# Altium schematic symbol library BRT_Components.SchLib: 323 symbols (part 3 of 4)
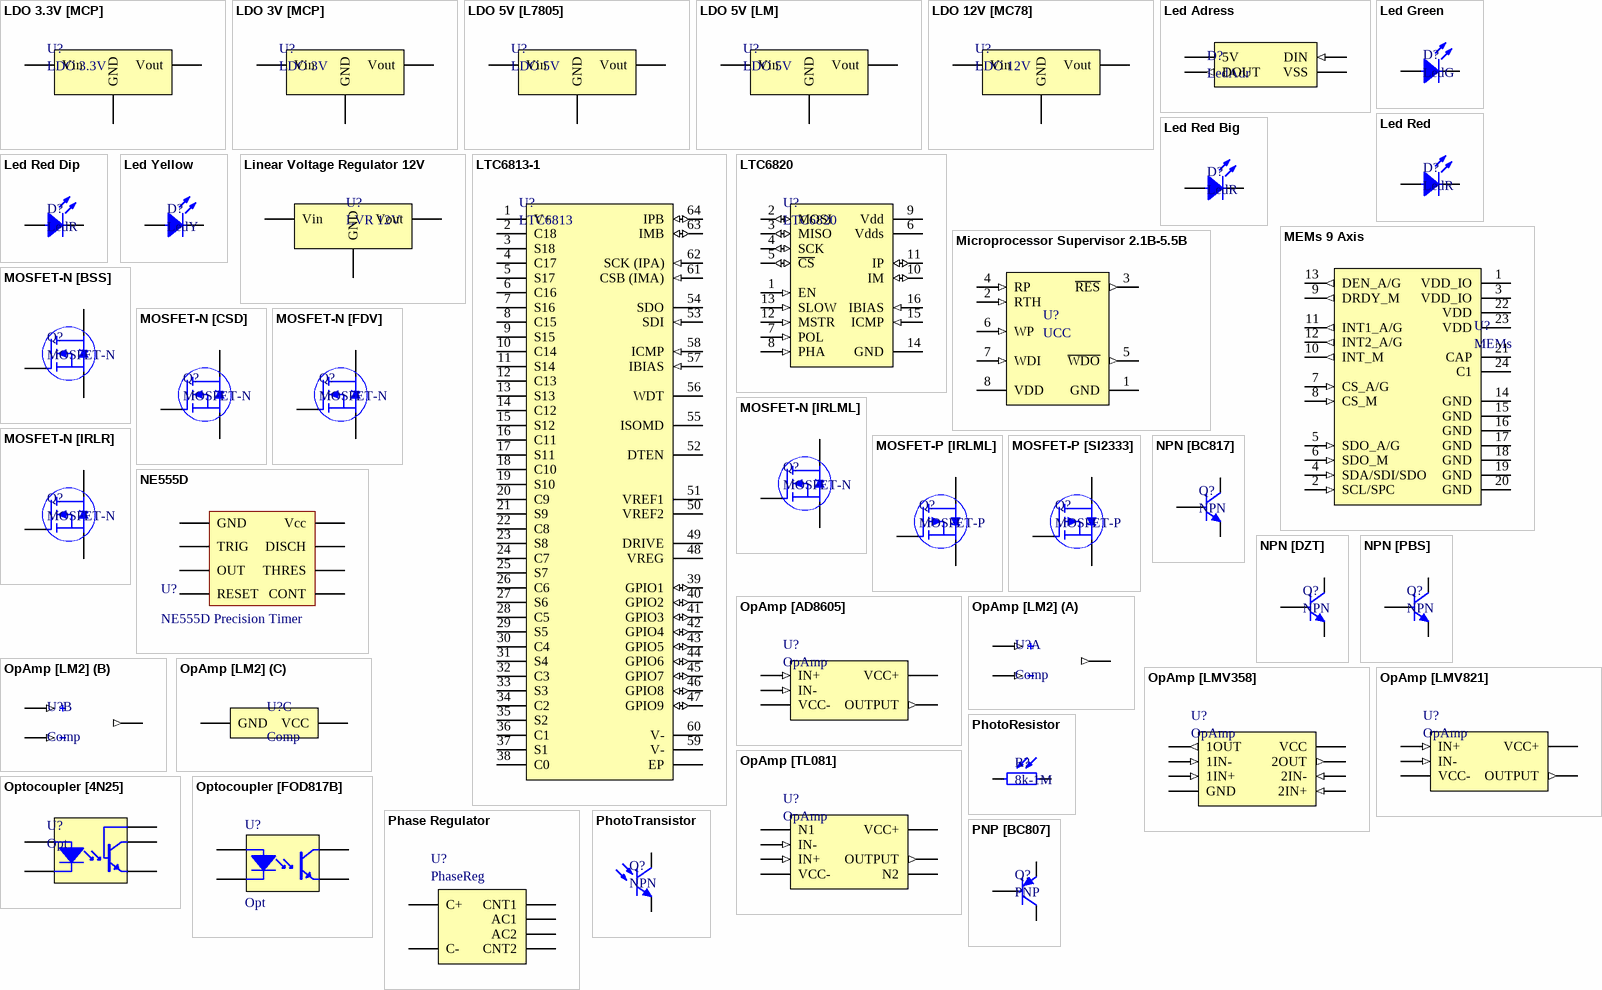
[diagram p10: symbols LDO 3.3V [MCP] to PNP [BC807]]

## Optocoupler [FOD817B]
designator U?, comment Opt
Phototransistor Optocoupler, 4 us Rise, 3 us Fall, 5000 Vrms, -55 to 110 degC, 4-Pin MDIP, RoHS, Tape and Reel; Manufacturer: ON Semiconductor; Part Nomber: FOD817B; ComponentLink1Description: Chip&Dip; ComponentLink1URL: https://www.chipdip.ru/product/fod817b; ComponentLink2Description: DataSheet; ComponentLink2URL: https://static.chipdip.ru/lib/297/DOC000297284.pdf
footprint FAIR-MDIP-4_V (SMD, 4-Leads, Body 6.5x4.6mm, Pitch 2.54mm)
pins: 1 ANODE, 2 CATHODE, 3 EMITTER, 4 COLLECTOR

## Phase Regulator
designator U?, comment PhaseReg
They are a mains voltage controller (phase controller circuit) and are designed for smooth switching on and off of electric incandescent lamps or adjusting their brightness, as well as for regulating the rotation speed of electric motors up to 150 W and for controlling power devices (thyristors, triacs). The implementation of the smooth on-off function will increase the life of the lamp by at least an order of magnitude. IC consists of two high-voltage thyristors switched in parallel and controlled by control unit through two isolating diodes. It has two power leads to be connected in series with the load, two auxiliary leads and two control inputs to connect a control resistor, capacitor or other control elements. The KR1182PM1 can be put in lamps, wall sockets and switches and used to control electric heaters. It is connected in series with the load. / Power DIP-(12 4) type enclosure.; Manufacturer: Russia; ComponentLink1Description: Chip&Dip; ComponentLink1URL: https://www.chipdip.ru/product/k1182pm1r; ComponentLink2Description: DataSheet; ComponentLink2URL: https://static.chipdip.ru/lib/143/DOC000143428.pdf; Part Number: KR1182PM1; Type: IC
footprint DIP16
pins: 3 C+ "Input Supply Voltage", 6 C-, 9 CNT2, 10, 11 AC2 (power), 14, 15 AC1 (power), 16 CNT1

## PhotoResistor
designator R?, comment 8k-1M
[GL5528]; Part Number: GL5528; Manufacturer: China; Type: Resistor; ComponentLink1Description: DataSheet; ComponentLink1URL: https://pi.gate.ac.uk/pages/airpi-files/PD0001.pdf
footprint PhotoResistor
pins: 1, 2

## PhotoTransistor
designator Q?, comment NPN
[L-7113P3C]; Manufacturer: Kingbright; Type: Transistor; Part Number: L-7113P3C; ComponentLink1Description: DataSheet; ComponentLink1URL: https://static.chipdip.ru/lib/195/DOC000195179.pdf; ComponentLink2Description: Chip&Dip; ComponentLink2URL: https://www.chipdip.ru/product/l-53p3c
footprint PhotoTransistor
pins: 1, 2

## PNP [BC807]
designator Q?, comment PNP
PNP general-purpose transistors; Part Number: BC807,215; Manufacturer: Nexperia; Type: Transistor; ComponentLink1Description: DataSheet; ComponentLink1URL: https://static.chipdip.ru/lib/078/DOC001078227.pdf; ComponentLink2Description: Chip&Dip; ComponentLink2URL: https://www.chipdip.ru/product/bc807.215
footprint SOT-23
pins: 1, 2, 3

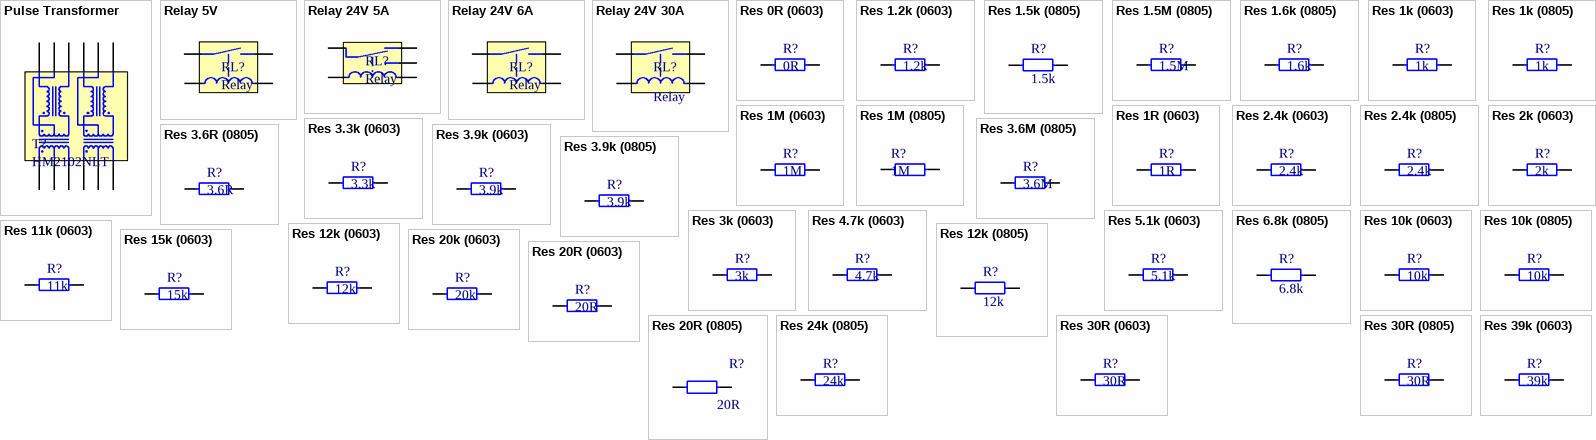
[diagram p6: symbols Pulse Transformer to Res 39k (0603)]

## Pulse Transformer
designator T?, comment HM2102NLT
150µH - Pulse Transformer 1:1 Surface Mount; Manufacturer: Pulse Electronics Network; Type: Inductor; Part Number: HM2102NLT; ComponentLink2Description: DigiKey; ComponentLink2URL: https://www.digikey.com/en/products/detail/pulse-electronics-network/HM2102NLT/8021473
footprint HM2102NLT
pins: 1, 2, 3, 4, 5, 6, 7, 8, 9, 10, 11, 12

## Relay 5V
designator RL?, comment Relay
High ratings: 12A 125VAC, 10A 277VAC/30VDC, TV-5, 1/4HP 125/250VAC; Manufacturer: Song Chuan Precision; Part Number: 834-1A-B-C 05VDC; ComponentLink1Description: Chip&Dip; ComponentLink1URL: https://www.chipdip.ru/product/834-1a-b-c-05vdc; ComponentLink2Description: DataSheet; ComponentLink2URL: https://static.chipdip.ru/lib/156/DOC000156754.pdf; Type: Relay
footprint Relay 1 Form A
pins: 1, 2, 3, 4

## Relay 24V 5A
designator RL?, comment Relay
Coil voltage: 24V VDC; 5A max; Part number: 1-1393219-0; Manufacturer: TE Connectivity; Type: Relay; ComponentLink1Description: Chip&Dip; ComponentLink1URL: https://www.chipdip.ru/product/tyco-1-1393219-0; ComponentLink2Description: Datasheet; ComponentLink2URL: https://static.chipdip.ru/lib/583/DOC000583317.pdf
footprint Relay(PE014024)
pins: 1, 2, 3, 4, 5

## Relay 24V 6A
designator RL?, comment Relay
Coil voltage: 24V; 6A max; Manufacturer: TE Connectivity; Part Number: RE030024; Type: Relay; ComponentLink1Description: Chip&Dip; ComponentLink1URL: https://www.chipdip.ru/product/tyco-re030024-1393217-8; ComponentLink2Description: Datasheet; ComponentLink2URL: https://static.chipdip.ru/lib/975/DOC000975764.pdf
footprint Relay(RE030024)
pins: 1, 2, 3, 4

## Relay 24V 30A
designator RL?, comment Relay
Coil voltage: 24V; 30A max; Manufacturer: TE Connectivity; Part number: T9GS1L14-24; Type: Relay; ComponentLink1Description: Chip&Dip; ComponentLink1URL: https://www.chipdip.ru/product/1558666-7-t9gs1l14-24; ComponentLink2Description: Datasheet; ComponentLink2URL: https://static.chipdip.ru/lib/009/DOC003009180.pdf
footprint Relay(1558666) (TE relay footprint)
pins: 1, 2, 3, 4

## Res 0R (0603)
designator R?, comment 0R
0.1W 0603 0R, 5%; Part Number: RC0603JR-070RL; Manufacturer: Taiwan; Type: Resistor; ComponentLink1Description: Chip&Dip; ComponentLink1URL: https://www.chipdip.ru/product0/9000070541
footprint 0603 Resistor
pins: 1, 2

## Res 1.2k (0603)
designator R?, comment 1.2k
0.1W 0603 1.2k, 1%; Part Number: RC0603FR-071K2L; Manufacturer: Taiwan; Type: Resistor; ComponentLink1Description: Chip&Dip; ComponentLink1URL: https://www.chipdip.ru/product0/9000079678
footprint 0603 Resistor
pins: 1, 2

## Res 1.5k (0805)
designator R?, comment 1.5k
0.125W 0805 1.5k, 1%; Part Number: RC0805FR-071K5L; Manufacturer: Taiwan; Type: Resistor; ComponentLink1Description: Chip&Dip; ComponentLink1URL: https://www.chipdip.ru/product0/9000079490
footprint 0805 Resistor
pins: 1, 2

## Res 1.5M (0805)
designator R?, comment 1.5M
0.125W 0805 1.5 R, 5%; Part Number: RC0805JR-071M5L; Manufacturer: Taiwan; ComponentLink2Description: Chip&Dip; ComponentLink2URL: https://www.chipdip.ru/product0/780602435; Type: Resistor
footprint 0805 Resistor
pins: 1, 2

## Res 1.6k (0805)
designator R?, comment 1.6k
0.125W 0805 1.6k, 1%; Part Number: RC0805FR-071K6L; Manufacturer: Taiwan; Type: Resistor; ComponentLink1Description: Chip&Dip; ComponentLink1URL: https://www.chipdip.ru/product0/9000079491
footprint 0805 Resistor
pins: 1, 2

## Res 1k (0603)
designator R?, comment 1k
0.1W 0603 1k, 1%; Part Number: RC0603FR-071KL; Manufacturer: Taiwan; Type: Resistor; ComponentLink1Description: Chip&Dip; ComponentLink1URL: https://www.chipdip.ru/product0/9000079676
footprint 0603 Resistor
pins: 1, 2

## Res 1k (0805)
designator R?, comment 1k
0.125W 0805 1k, 1%; Part Number: RC0805FR-071KL; Manufacturer: Taiwan; Type: Resistor; ComponentLink1Description: Chip&Dip; ComponentLink1URL: https://www.chipdip.ru/product0/9000079486
footprint 0805 Resistor
pins: 1, 2

## Res 1M (0603)
designator R?, comment 1M
0.1W 0603 1M, 1%; Part Number: RC0603FR-071ML; Manufacturer: Taiwan; Type: Resistor; ComponentLink1Description: Chip&Dip; ComponentLink1URL: https://www.chipdip.ru/product0/9000079784
footprint 0603 Resistor
pins: 1, 2

## Res 1M (0805)
designator R?, comment 1M
0.125W 0805 1 R, 5%; Part Number: RC0805JR-071ML; Manufacturer: Taiwan; ComponentLink2Description: Chip&Dip; ComponentLink2URL: https://www.chipdip.ru/product0/830469679; Type: Resistor
footprint 0805 Resistor
pins: 1, 2

## Res 1R (0603)
designator R?, comment 1R
0.1W 0603 1R, 1%; Part Number: RC0603FR-071RL; Manufacturer: Taiwan; Type: Resistor; ComponentLink1Description: Chip&Dip; ComponentLink1URL: https://www.chipdip.ru/product0/9000079509
footprint 0603 Resistor
pins: 1, 2

## Res 2.4k (0603)
designator R?, comment 2.4k
0.1W 0603 2.4k, 1%; Part Number: RC0603FR-072K4L; Manufacturer: Taiwan; Type: Resistor; ComponentLink1Description: Chip&Dip; ComponentLink1URL: https://www.chipdip.ru/product0/9000079721
footprint 0603 Resistor
pins: 1, 2

## Res 2.4k (0805)
designator R?, comment 2.4k
0.125W 0805 2.4k, 1%; Part Number: RC0805FR-072K4L; Manufacturer: Taiwan; Type: Resistor; ComponentLink1Description: Chip&Dip; ComponentLink1URL: https://www.chipdip.ru/product0/9000079495
footprint 0805 Resistor
pins: 1, 2

## Res 2k (0603)
designator R?, comment 2k
0.1W 0603 2k, 1%; Part Number: RC0603FR-072KL; Manufacturer: Taiwan; Type: Resistor; ComponentLink1Description: Chip&Dip; ComponentLink1URL: https://www.chipdip.ru/product0/9000079719
footprint 0603 Resistor
pins: 1, 2

## Res 3.3k (0603)
designator R?, comment 3.3k
0.1W 0603 3.3k, 1%; Part Number: RC0603FR-073K3L; Manufacturer: Taiwan; Type: Resistor; ComponentLink1Description: Chip&Dip; ComponentLink1URL: https://www.chipdip.ru/product0/9000079724
footprint 0603 Resistor
pins: 1, 2

## Res 3.6M (0805)
designator R?, comment 3.6M
0.125W 0805 3.6M, 1%; Part Number: RC0805FR-073M6L; Manufacturer: Taiwan; Type: Resistor; ComponentLink1Description: Chip&Dip; ComponentLink1URL: https://www.chipdip.ru/product0/9000079591
footprint 0805 Resistor
pins: 1, 2

## Res 3.6R (0805)
designator R?, comment 3.6R
0.125W 0805 3.6R, 1%; Part Number: RC0805FR-073R6L; Manufacturer: Taiwan; Type: Resistor; ComponentLink2Description: Chip&Dip; ComponentLink2URL: https://www.chipdip.ru/product0/9000079925
footprint 0603 Resistor
pins: 1, 2

## Res 3.9k (0603)
designator R?, comment 3.9k
0.1W 0603 3.9k, 1%; Part Number: RC0603FR-073K9L; Manufacturer: Taiwan; Type: Resistor; ComponentLink1Description: Chip&Dip; ComponentLink1URL: https://www.chipdip.ru/product0/9000079726
footprint 0603 Resistor
pins: 1, 2

## Res 3.9k (0805)
designator R?, comment 3.9k
0.125W 0805 3.9k, 1%; Part Number: RC0805FR-073K9L; Manufacturer: Taiwan; Type: Resistor; ComponentLink1Description: Chip&Dip; ComponentLink1URL: https://www.chipdip.ru/product0/9000079500
footprint 0805 Resistor
pins: 1, 2

## Res 3k (0603)
designator R?, comment 3k
0.1W 0603 3k, 1%; Part Number: RC0603FR-073KL; Manufacturer: Taiwan; Type: Resistor; ComponentLink1Description: Chip&Dip; ComponentLink1URL: https://www.chipdip.ru/product0/9000079723
footprint 0603 Resistor
pins: 1, 2

## Res 4.7k (0603)
designator R?, comment 4.7k
0.1W 0603 4.7k, 1%; Part Number: RC0603FR-074K7L; Manufacturer: Taiwan; Type: Resistor; ComponentLink1Description: Chip&Dip; ComponentLink1URL: https://www.chipdip.ru/product0/9000079728
footprint 0603 Resistor
pins: 1, 2

## Res 5.1k (0603)
designator R?, comment 5.1k
0.1W 0603 5.1k, 1%; Part Number: RC0603FR-075K1L; Manufacturer: Taiwan; Type: Resistor; ComponentLink1Description: Chip&Dip; ComponentLink1URL: https://www.chipdip.ru/product0/9000079729
footprint 0603 Resistor
pins: 1, 2

## Res 6.8k (0805)
designator R?, comment 6.8k
0.125W 0805 6.8k, 1%; Part Number: RC0805FR-076K8L; Manufacturer: Taiwan; Type: Resistor; ComponentLink1Description: Chip&Dip; ComponentLink1URL: https://www.chipdip.ru/product0/9000079506
footprint 0805 Resistor
pins: 1, 2

## Res 10k (0603)
designator R?, comment 10k
0.1W 0603 10k, 1%; Part Number: RC0603FR-0710KL; Manufacturer: Taiwan; Type: Resistor; ComponentLink1Description: Chip&Dip; ComponentLink1URL: https://www.chipdip.ru/product0/9000079736
footprint 0603 Resistor
pins: 1, 2

## Res 10k (0805)
designator R?, comment 10k
0.125W 0805 10k, 1%; Part Number: RC0805FR-0710KL; Manufacturer: Taiwan; Type: Resistor; ComponentLink1Description: Chip&Dip; ComponentLink1URL: https://www.chipdip.ru/product0/9000079514
footprint 0805 Resistor
pins: 1, 2

## Res 11k (0603)
designator R?, comment 11k
0.1W 0603 11k, 1%; Part Number: RC0603FR-0711KL; Manufacturer: Taiwan; Type: Resistor; ComponentLink1Description: Chip&Dip; ComponentLink1URL: https://www.chipdip.ru/product0/9000079737
footprint 0603 Resistor
pins: 1, 2

## Res 12k (0603)
designator R?, comment 12k
0.1W 0603 12k, 1%; Part Number: RC0603FR-0712KL; Manufacturer: Taiwan; Type: Resistor; ComponentLink1Description: Chip&Dip; ComponentLink1URL: https://www.chipdip.ru/product0/9000079738
footprint 0603 Resistor
pins: 1, 2

## Res 12k (0805)
designator R?, comment 12k
0.125W 0805 12k, 1%; Part Number: RC0805FR-071K5L; Manufacturer: Taiwan; Type: Resistor; ComponentLink1Description: Chip&Dip; ComponentLink1URL: https://www.chipdip.ru/product/b82472g6153m000-15
footprint 0805 Resistor
pins: 1, 2

## Res 15k (0603)
designator R?, comment 15k
0.1W 0603 15k, 1%; Part Number: RC0603FR-0715KL; Manufacturer: Taiwan; Type: Resistor; ComponentLink1Description: Chip&Dip; ComponentLink1URL: https://www.chipdip.ru/product0/9000079740
footprint 0603 Resistor
pins: 1, 2

## Res 20k (0603)
designator R?, comment 20k
0.1W 0603 10k, 1%; Part Number: RC0603FR-0720KL; Manufacturer: Taiwan; Type: Resistor; ComponentLink1Description: Chip&Dip; ComponentLink1URL: https://www.chipdip.ru/product0/9000079743
footprint 0603 Resistor
pins: 1, 2

## Res 20R (0603)
designator R?, comment 20R
0.1W 0603 20R, 5%; Part Number: RC0603JR-0720RL; Manufacturer: Taiwan; Type: Resistor; ComponentLink1Description: Chip&Dip; ComponentLink1URL: https://www.chipdip.ru/product0/9000215377
footprint 0603 Resistor
pins: 1, 2

## Res 20R (0805)
designator R?, comment 20R
0.5W 0805 20R, 1%; Part Numder: CRCW080520R0FKEAHP; Manufacturer: Vishay; Type: Resistor; ComponentLink1Description: DataSheet; ComponentLink1URL: http://www.farnell.com/datasheets/2618455.pdf; ComponentLink2Description: Chip&Dip; ComponentLink2URL: chipdip.ru/product/crcw080520r0fkeahp-1
footprint 0805 Resistor
pins: 1, 2

## Res 24k (0805)
designator R?, comment 24k
0.125W 0805 24k, 1%; Part Number: RC0805FR-0724KL; Manufacturer: Taiwan; Type: Resistor; ComponentLink1Description: Chip&Dip; ComponentLink1URL: https://www.chipdip.ru/product0/9000079523
footprint 0805 Resistor
pins: 1, 2

## Res 30R (0603)
designator R?, comment 30R
0.1W 0603 30R, 1%; Part Number: RC0603FR-0730RL; Manufacturer: Taiwan; Type: Resistor; ComponentLink1Description: Chip&Dip; ComponentLink1URL: https://www.chipdip.ru/product0/9000079603
footprint 0603 Resistor
pins: 1, 2

## Res 30R (0805)
designator R?, comment 30R
0.125W 0805 30R, 1%; Part Number: RC0805FR-0730RL; Manufacturer: Taiwan; Type: Resistor; ComponentLink1Description: Chip&Dip; ComponentLink1URL: https://www.chipdip.ru/product0/9000079449
footprint 0805 Resistor
pins: 1, 2

## Res 39k (0603)
designator R?, comment 39k
0.1W 0603 39k, 1%; Part Number: RC0603FR-0739KL; Manufacturer: Taiwan; Type: Resistor; ComponentLink1Description: Chip&Dip; ComponentLink1URL: https://www.chipdip.ru/product0/9000079750
footprint 0603 Resistor
pins: 1, 2

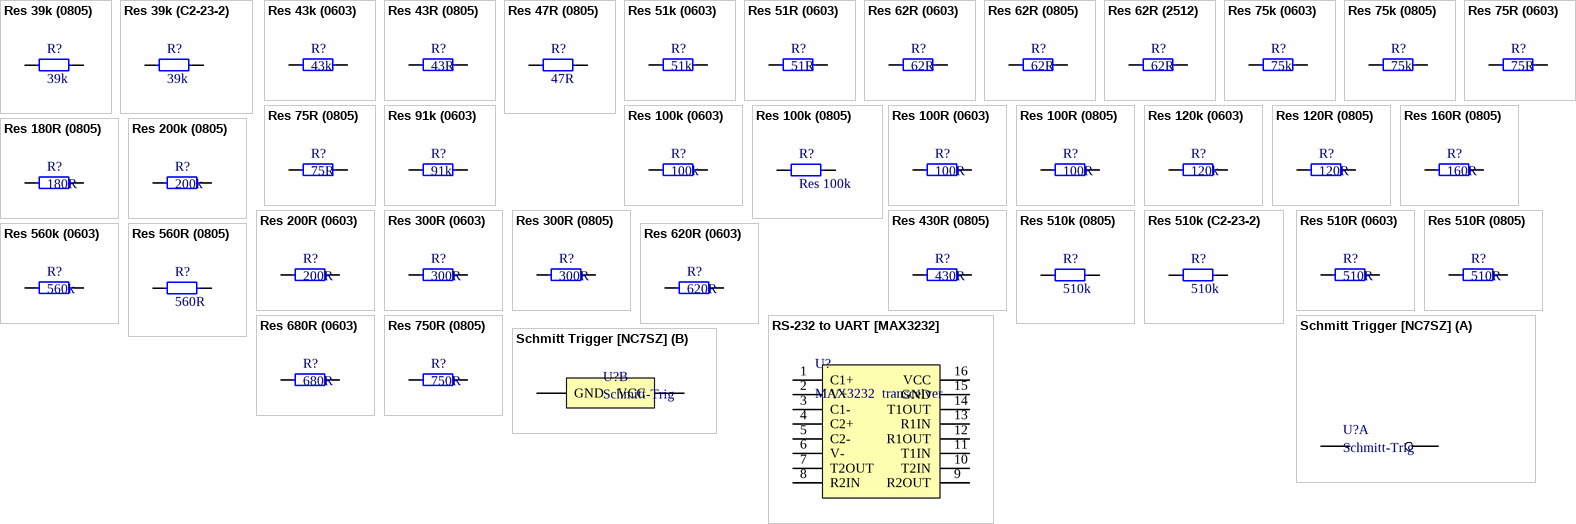
[diagram p7: symbols Res 39k (0805) to Schmitt Trigger [NC7SZ]]

## Res 39k (0805)
designator R?, comment 39k
0.125W 0805 39k, 1%; Part Number: RC0805FR-0739KL; Manufacturer: Taiwan; Type: Resistor; ComponentLink1Description: Chip&Dip; ComponentLink1URL: https://www.chipdip.ru/product0/9000079528
footprint 0805 Resistor
pins: 1, 2

## Res 39k (C2-23-2)
designator R?, comment 39k
2W C2-23-2 39k, 5%; Part Number: MO-2W-39KJ; Manufacturer: Taiwan; Type: Resistor; ComponentLink1Description: Chip&Dip; ComponentLink1URL: https://www.chipdip.ru/product0/28914
footprint C2-23-2
pins: 1, 2

## Res 43k (0603)
designator R?, comment 43k
0.1W 0603 43k, 1%; Part Number: RC0603FR-0743KL; Manufacturer: Taiwan; Type: Resistor; ComponentLink1Description: Chip&Dip; ComponentLink1URL: https://www.chipdip.ru/product0/9000079751
footprint 0603 Resistor
pins: 1, 2

## Res 43R (0805)
designator R?, comment 43R
0.125W 0805 43R, 1%; Part Number: RC0805FR-0743RL; Manufacturer: Taiwan; Type: Resistor; ComponentLink1Description: Chip&Dip; ComponentLink1URL: https://www.chipdip.ru/product0/9000079453
footprint 0805 Resistor
pins: 1, 2

## Res 47R (0805)
designator R?, comment 47R
0.125W 0805 47R, 1%; Part Number: RC0805FR-0747RL; Manufacturer: Taiwan; ComponentLink1Description: Chip&Dip; ComponentLink1URL: https://www.chipdip.ru/product0/9000079454; Type: Resistor
footprint 0805 Resistor
pins: 1, 2

## Res 51k (0603)
designator R?, comment 51k
0.1W 0603 51k, 1%; Part Number: RC0603FR-0751KL; Manufacturer: Taiwan; Type: Resistor; ComponentLink1Description: Chip&Dip; ComponentLink1URL: https://www.chipdip.ru/product0/9000079753
footprint 0603 Resistor
pins: 1, 2

## Res 51R (0603)
designator R?, comment 51R
0.1W 0603 51R, 1%; Part Number: RC0603FR-0751RL; Manufacturer: Taiwan; Type: Resistor; ComponentLink1Description: Chip&Dip; ComponentLink1URL: https://www.chipdip.ru/product0/9000079609
footprint 0603 Resistor
pins: 1, 2

## Res 62R (0603)
designator R?, comment 62R
0.1W 0603 62R, 1%; Part Number: RC0603FR-0762RL; Manufacturer: Taiwan; Type: Resistor; ComponentLink1Description: Chip&Dip; ComponentLink1URL: https://www.chipdip.ru/product0/9000079611
footprint 0603 Resistor
pins: 1, 2

## Res 62R (0805)
designator R?, comment 62R
0.125W 0805 62R, 1%; Part Number: RC0805FR-0762RL; Manufacturer: Taiwan; Type: Resistor; ComponentLink1Description: Chip&Dip; ComponentLink1URL: https://www.chipdip.ru/product0/9000079457
footprint 0805 Resistor
pins: 1, 2

## Res 62R (2512)
designator R?, comment 62R
1W 2512 62R, 1%; Part Number: RC2512FR-0762RL; Manufacturer: Taiwan; Type: Resistor; ComponentLink1Description: Chip&Dip; ComponentLink1URL: https://www.chipdip.ru/product0/9000190086
footprint 2512 Resistor
pins: 1, 2

## Res 75k (0603)
designator R?, comment 75k
0.1W 0603 75k, 1%; Part Number: RC0603FR-0775KL; Manufacturer: Taiwan; Type: Resistor; ComponentLink1Description: Chip&Dip; ComponentLink1URL: https://www.chipdip.ru/product0/9000079757
footprint 0603 Resistor
pins: 1, 2

## Res 75k (0805)
designator R?, comment 75k
0.125W 0805 75k, 1%; Part Number: RC0805FR-0775KL; Manufacturer: Taiwan; Type: Resistor; ComponentLink1Description: Chip&Dip; ComponentLink1URL: https://www.chipdip.ru/product0/9000079535
footprint 0805 Resistor
pins: 1, 2

## Res 75R (0603)
designator R?, comment 75R
0.1W 0603 75R, 1%; Part Number: RC0603FR-0775RL; Manufacturer: Taiwan; Type: Resistor; ComponentLink1Description: Chip&Dip; ComponentLink1URL: https://www.chipdip.ru/product0/9000079613
footprint 0603 Resistor
pins: 1, 2

## Res 75R (0805)
designator R?, comment 75R
0.125W 0805 75R, 1%; Part Number: RC0805FR-0775RL; Manufacturer: Taiwan; Type: Resistor; ComponentLink1Description: Chip&Dip; ComponentLink1URL: https://www.chipdip.ru/product0/9000079459
footprint 0805 Resistor
pins: 1, 2

## Res 91k (0603)
designator R?, comment 91k
0.1W 0603 91k, 1%; Part Number: RC0603FR-0791KL; Manufacturer: Taiwan; Type: Resistor; ComponentLink1Description: Chip&Dip; ComponentLink1URL: https://www.chipdip.ru/product0/9000079759
footprint 0603 Resistor
pins: 1, 2

## Res 100k (0603)
designator R?, comment 100k
0.1W 0603 100k, 1%; Part Number: RC0603FR-07100KL; Manufacturer: Taiwan; Type: Resistor; ComponentLink1Description: Chip&Dip; ComponentLink1URL: https://www.chipdip.ru/product0/9000079760
footprint 0603 Resistor
pins: 1, 2

## Res 100k (0805)
designator R?, comment Res 100k
0.125W 0805 100k, 1%; Part Number: RC0805FR-07100KL; Manufacturer: Taiwan; Type: Resistor; ComponentLink1Description: Chip&Dip; ComponentLink1URL: https://www.chipdip.ru/product0/9000079538
footprint 0805 Resistor
pins: 1, 2

## Res 100R (0603)
designator R?, comment 100R
0.1W 0603 100R, 1%; Part Number: RC0603FR-07100RL; Manufacturer: Taiwan; Type: Resistor; ComponentLink1Description: Chip&Dip; ComponentLink1URL: https://www.chipdip.ru/product0/9000079616
footprint 0603 Resistor
pins: 1, 2

## Res 100R (0805)
designator R?, comment 100R
0.125W 0805 100R, 1%; Part Number: RC0805FR-07100RL; Manufacturer: Taiwan; Type: Resistor; ComponentLink1Description: Chip&Dip; ComponentLink1URL: https://www.chipdip.ru/product0/9000079462
footprint 0805 Resistor
pins: 1, 2

## Res 120k (0603)
designator R?, comment 120k
0.1W 0603 120k, 1%; Part Number: RC0603FR-07120KL; Manufacturer: Taiwan; Type: Resistor; ComponentLink1Description: Chip&Dip; ComponentLink1URL: https://www.chipdip.ru/product0/9000079762
footprint 0603 Resistor
pins: 1, 2

## Res 120R (0805)
designator R?, comment 120R
0.125W 0805 120R, 1%; Part Number: RC0805FR-07120RL; Manufacturer: Taiwan; Type: Resistor; ComponentLink1Description: Chip&Dip; ComponentLink1URL: https://www.chipdip.ru/product0/9000079464
footprint 0805 Resistor
pins: 1, 2

## Res 160R (0805)
designator R?, comment 160R
0.125W 0805 160R, 1%; Part Number: RC0805FR-07160RL; Manufacturer: Taiwan; Type: Resistor; ComponentLink1Description: Chip&Dip; ComponentLink1URL: https://www.chipdip.ru/product0/9000079467
footprint 0805 Resistor
pins: 1, 2

## Res 180R (0805)
designator R?, comment 180R
0.125W 0805 180R, 1%; Part Number: RC0805FR-07180RL; Manufacturer: Taiwan; Type: Resistor; ComponentLink1Description: Chip&Dip; ComponentLink1URL: https://www.chipdip.ru/product0/9000079468
footprint 0805 Resistor
pins: 1, 2

## Res 200k (0805)
designator R?, comment 200k
0.125W 0805 200k, 1%; Part Number: RC0805FK-07200KL; Manufacturer: Taiwan; Type: Resistor; ComponentLink1Description: Chip&Dip; ComponentLink1URL: https://www.chipdip.ru/product0/914213016
footprint 0805 Resistor
pins: 1, 2

## Res 200R (0603)
designator R?, comment 200R
0.1W 0603 200R, 1%; Part Number: RC0603FR-07200RL; Manufacturer: Taiwan; Type: Resistor; ComponentLink1Description: Chip&Dip; ComponentLink1URL: https://www.chipdip.ru/product0/9000079623
footprint 0603 Resistor
pins: 1, 2

## Res 300R (0603)
designator R?, comment 300R
0.1W 0603 300R, 1%; Part Number: RC0603FR-07360RL; Manufacturer: Taiwan; Type: Resistor; ComponentLink1Description: Chip&Dip; ComponentLink1URL: https://www.chipdip.ru/product0/9000079629
footprint 0603 Resistor
pins: 1, 2

## Res 300R (0805)
designator R?, comment 300R
0.125W 0805 300R, 1%; Part Number: RC0805FR-07300RL; Manufacturer: Taiwan; Type: Resistor; ComponentLink1Description: Chip&Dip; ComponentLink1URL: https://www.chipdip.ru/product0/9000079473
footprint 0805 Resistor
pins: 1, 2

## Res 430R (0805)
designator R?, comment 430R
0.125W 0805 430R, 1%; Part Number: RC0805FR-07430RL; Manufacturer: Taiwan; Type: Resistor; ComponentLink1Description: Chip&Dip; ComponentLink1URL: https://www.chipdip.ru/product0/9000079477
footprint 0805 Resistor
pins: 1, 2

## Res 510k (0805)
designator R?, comment 510k
0.125W 0805 510k, 1%; Part Number: RC0805FR-07510KLRC0805FR-07510KL; Manufacturer: Taiwan; Type: Resistor; ComponentLink1Description: Chip&Dip; ComponentLink1URL: https://www.chipdip.ru/product0/9000079571
footprint 0805 Resistor
pins: 1, 2

## Res 510k (C2-23-2)
designator R?, comment 510k
2W C2-23-2 510k, 5%; Part Number: MO-2W-510KJ; Manufacturer: Taiwan; Type: Resistor; ComponentLink1Description: Chip&Dip; ComponentLink1URL: https://www.chipdip.ru/product0/28493
footprint C2-23-2
pins: 1, 2

## Res 510R (0603)
designator R?, comment 510R
0.1W 0603 510R, 1%; Part Number: RC0603FR-07510RL; Manufacturer: Taiwan; Type: Resistor; ComponentLink1Description: Chip&Dip; ComponentLink1URL: https://www.chipdip.ru/product0/9000079669
footprint 0603 Resistor
pins: 1, 2

## Res 510R (0805)
designator R?, comment 510R
0.125W 0805 510R, 1%; Part Number: RC0805FR-07510RL; Manufacturer: Taiwan; Type: Resistor; ComponentLink1Description: Chip&Dip; ComponentLink1URL: https://www.chipdip.ru/product0/9000079479
footprint 0805 Resistor
pins: 1, 2

## Res 560k (0603)
designator R?, comment 560k
0.1W 0603 560k, 1%; Part Number: RC0603FR-07560KL; Manufacturer: Taiwan; Type: Resistor; ComponentLink1Description: Chip&Dip; ComponentLink1URL: https://www.chipdip.ru/product0/9000079778
footprint 0603 Resistor
pins: 1, 2

## Res 560R (0805)
designator R?, comment 560R
0.125W 0805 560R, 1%; Part Number: C0805FR-07560RL; Manufacturer: Taiwan; Type: Type; ComponentLink1Description: Chip&Dip; ComponentLink1URL: https://www.chipdip.ru/product0/9000079480
footprint 0805 Resistor
pins: 1, 2

## Res 620R (0603)
designator R?, comment 620R
0.1W 0603 620R, 1%; Part Number: RC0603FR-07620RL; Manufacturer: Taiwan; Type: Resistor; ComponentLink1Description: Chip&Dip; ComponentLink1URL: https://www.chipdip.ru/product0/9000079671
footprint 0603 Resistor
pins: 1, 2

## Res 680R (0603)
designator R?, comment 680R
0.1W 0603 680R, 1%; Part Number: RC0603FR-07680RL; Manufacturer: Taiwan; Type: Resistor; ComponentLink1Description: Chip&Dip; ComponentLink1URL: https://www.chipdip.ru/product0/9000079672
footprint 0603 Resistor
pins: 1, 2

## Res 750R (0805)
designator R?, comment 750R
0.125W 0805 750R, 1%; Part Number: RC0805FR-07750RL; Manufacturer: Taiwan; Type: Resistor; ComponentLink1Description: Chip&Dip; ComponentLink1URL: https://www.chipdip.ru/product0/9000079483
footprint 0805 Resistor
pins: 1, 2

## RS-232 to UART [MAX3232]
designator U?, comment MAX3232  transceiver
RS-232 Dual Transmitters/Receivers, Maxim Integrated; Manufacturer: Maxim Integrated Products; Part Number: MAX3232CSE+T; Type: IC; ComponentLink1Description: Chip&Dip; ComponentLink1URL: https://www.chipdip.ru/product/max3232cse; ComponentLink2Description: Datasheet; ComponentLink2URL: https://static.chipdip.ru/lib/222/DOC000222323.pdf
footprint SOIC-16
pins: 1 C1+, 2 V+, 3 C1-, 4 C2+, 5 C2-, 6 V-, 7 T2OUT, 8 R2IN, 9 R2OUT, 10 T2IN, 11 T1IN, 12 R1OUT, 13 R1IN, 14 T1OUT, 15 GND, 16 VCC (power)

## Schmitt Trigger [NC7SZ]
designator U?, comment Schmitt-Trig
The NC7SZ14M5X is a single Inverter with Schmitt-trigger input from ultra-high speed (UHS) series of TinyLogic®. The device is fabricated with advanced CMOS technology to achieve ultra-high speed with high output drive while maintaining low static power dissipation over a very broad VCC operating range. The device is specified to operate over the 1.65 to 5.5V VCC range. The inputs and outputs are high-impedance when VCC is 0V. Inputs tolerate voltages up to 6V independent of VCC operating voltage.; Manufacturer: ON Semiconductor; Part Number: NC7SZ14M5X; ComponentLink1Description: DataSheet; ComponentLink1URL: https://static.chipdip.ru/lib/321/DOC000321280.pdf; ComponentLink2Description: Chip&Dip; ComponentLink2URL: https://www.chipdip.ru/product/nc7sz14m5x; Type: IC
footprint SOT-23-5
part A pins: 2 in, 4 Y
part B pins: 3 GND (power), 5 VCC (power)

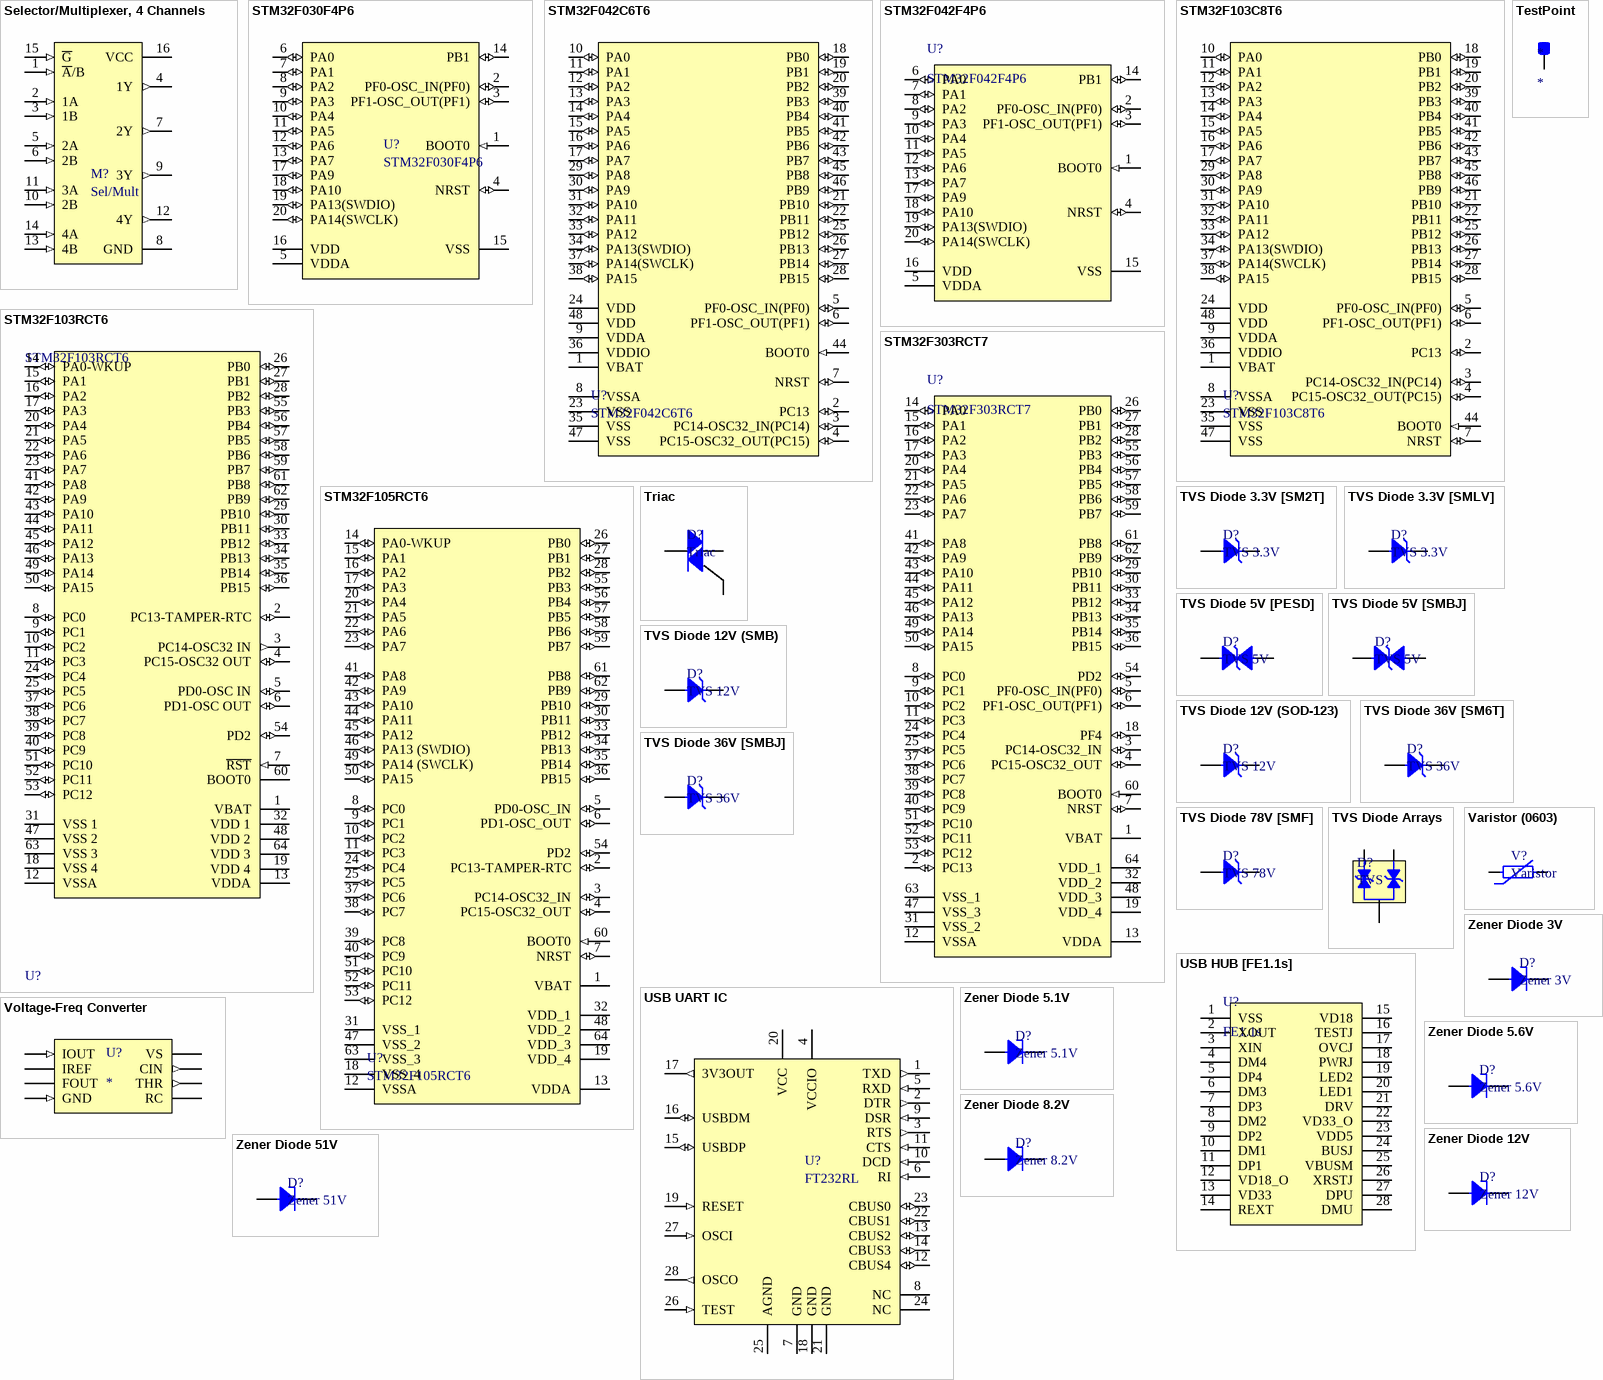
[diagram p8: symbols Selector/Multiplexer, 4 Channels to Zener Diode 51V]

## Selector/Multiplexer, 4 Channels
designator M?, comment Sel/Mult
Data Selector/Multiplexer, AC Family, 4 Channels, 2:1, 1.5 V to 5.5 V, SOIC-16; Part Number: CD74AC157M; Manufacturer: Texas Instruments; ComponentLink1Description: DataSheet; ComponentLink1URL: https://www.ti.com/lit/ds/symlink/cd74ac157.pdf?ts=1604337800463&ref_url=https%253A%252F%252Fwww.google.com%252F; ComponentLink2Description: Chip&Dip; ComponentLink2URL: https://www.chipdip.ru/product/cd74ac157m; Type: IC
footprint SOIC-16
pins: 1 ~{A}/B (in), 2 1A (in), 3 1B (in), 4 1Y (out), 5 2A (in), 6 2B (in), 7 2Y (out), 8 GND (power), 9 3Y (out), 10 2B (in), 11 3A (in), 12 4Y (out), 13 4B (in), 14 4A (in), 15 ~{G} (in), 16 VCC (power)

## STM32F030F4P6
designator U?
ARM®-based 32-bit MCU with up to 256 KB Flash, timers, ADC, communication interfaces, 2.4-3.6 V operation; Manufacturer: STMicroelectronics; Part Number: STM32F030F4P6; Type: IC; ComponentLink1Description: DataSheet; ComponentLink1URL: https://static.chipdip.ru/lib/724/DOC002724291.pdf; ComponentLink2Description: Chip&Dip; ComponentLink2URL: https://www.chipdip.ru/product/stm32f030f4p6
footprint TSSOP-20
pins: 1 BOOT0 (in) "Boot memory selection", 2 PF0-OSC_IN(PF0) (io) "PF0-OSC_IN(PF0)/OSC_IN", 3 PF1-OSC_OUT(PF1) (io) "PF1-OSC_OUT(PF1)/OSC_OUT", 4 NRST (io) "Device reset input / internal reset output (active low)", 5 VDDA (power) "Analog power supply", 6 PA0 (io) "PA0/USART1_CTS/ADC_IN0,RTC_TAMP2,WKUP1", 7 PA1 (io) "PA1/USART1_RTS,EVENTOUT/ADC_IN1", 8 PA2 (io) "PA2/USART1_TX/ADC_IN2", 9 PA3 (io) "PA3/USART1_RX/ADC_IN3", 10 PA4 (io) "PA4/SPI1_NSS,USART1_CK,TIM14_CH1/ADC_IN4", 11 PA5 (io) "PA5/SPI1_SCK/ADC_IN5", 12 PA6 (io) "PA6/SPI1_MISO,TIM3_CH1,TIM1_BKIN,TIM16_CH1,EVENTOUT/ADC_IN6", 13 PA7 (io) "PA7/SPI1_MOSI,TIM3_CH2,TIM14_CH1,TIM1_CH1N,TIM17_CH1,EVENTOUT/ADC_IN7", 14 PB1 (io) "PB1/TIM3_CH4,TIM14_CH1,TIM1_CH3N/ADC_IN9", 15 VSS (power) "Ground", 16 VDD (power) "Digital power supply", 17 PA9 (io) "PA9/USART1_TX,TIM1_CH2,I2C1_SCL", 18 PA10 (io) "PA10/USART1_RX,TIM1_CH3,TIM17_BKIN,I2C1_SDA", 19 PA13(SWDIO) (io) "PA13(SWDIO)/IR_OUT,SWDIO", 20 PA14(SWCLK) (io) "PA14(SWCLK)/USART1_TX,SWCLK"

## STM32F042C6T6
designator U?
ARM®-based 32-bit MCU, up to 32 KB Flash, crystal-less USB / FS 2.0, CAN, 9 timers, ADC and comm. interfaces, 2.0 - 3.6 V; Manufacturer: STMicroelectronics; Part Number: STM32F042C6T6; ComponentLink1Description: DataSheet; ComponentLink1URL: https://ru.mouser.com/datasheet/2/389/stm32f042c4-956225.pdf; ComponentLink2Description: Chip&Dip; ComponentLink2URL: https://www.chipdip.ru/product1/8000831125; Type: IC
footprint LQFP48
pins: 1 VBAT (power) "Battary power supply", 2 PC13 (io) "PC13/RTC_TAMP1,RTC_TS,RTC_OUT,WKUP2", 3 PC14-OSC32_IN(PC14) (io) "PC14-OSC32_IN(PC14)/OSC32_IN", 4 PC15-OSC32_OUT(PC15) (io) "PC15-OSC32_OUT(PC15)/OSC32_OUT", 5 PF0-OSC_IN(PF0) (io) "PF0-OSC_IN(PF0)/OSC_IN", 6 PF1-OSC_OUT(PF1) (io) "PF1-OSC_OUT(PF1)/OSC_OUT", 7 NRST (io) "Device reset input / internal reset output (active low)", 8 VSSA (power) "Analog Ground", 9 VDDA (power) "Analog power supply", 10 PA0 (io) "PA0/TIM2_CH1_ETR,USART1_CTS/ADC_IN0,RTC_TAMP2,WKUP1", 11 PA1 (io) "PA1/TIM2_CH2,EVENTOUT,USART1_RTS/ADC_IN1", 12 PA2 (io) "PA2/TIM2_CH3,USART1_TX/ADC_IN2", 13 PA3 (io) "PA3/TIM2_CH4,USART1_RX/ADC_IN3", 14 PA4 (io) "PA4/SPI1_NSS,I2S1_WS,TIM14_CH1,USART1_CK/ADC_IN4", 15 PA5 (io) "PA5/SPI1_SCK,I2S1_CK,TIM2_CH1_ETR/ADC_IN5", 16 PA6 (io) "PA6/SPI1_MISO,I2S1_MCK,TIM3_CH1,TIM1_BKIN,TIM16_CH1,EVENTOUT/ADC_IN6", 17 PA7 (io) "PA7/SPI1_MOSI,I2S1_SD,TIM3_CH2,TIM14_CH1,TIM1_CH1N,TIM17_CH1,EVENTOUT/ADC_IN7", 18 PB0 (io) "PB0/TIM3_CH3,TIM1_CH2N,EVENTOUT/ADC_IN8", 19 PB1 (io) "PB1/TIM3_CH4,TIM14_CH1,TIM1_CH3N/ADC_IN9", 20 PB2 (io), 21 PB10 (io) "PB10/TIM2_CH3,I2C1_SCL", 22 PB11 (io) "PB11/TIM2_CH4,EVENTOUT,I2C1_SDA", 23 VSS (power) "Ground", 24 VDD (power) "Digital power supply", 25 PB12 (io) "PB12/TIM1_BKIN,EVENTOUT,SPI1_NSS", 26 PB13 (io) "PB13/TIM1_CH1N,SPI1_SCK", 27 PB14 (io) "PB14/TIM1_CH2N,SPI1_MISO", 28 PB15 (io) "PB15/TIM1_CH3N,SPI1_MOSI/RTC_REFIN", 29 PA8 (io) "PA8/USART1_CK,TIM1_CH1,EVENTOUT,MCO", 30 PA9 (io) "PA9/USART1_TX,TIM1_CH2,I2C1_SCL", 31 PA10 (io) "PA10/USART1_RX,TIM1_CH3,TIM17_BKIN,I2C1_SDA", 32 PA11 (io) "PA11/USART1_CTS,TIM1_CH4,EVENTOUT", 33 PA12 (io) "PA12/USART1_RTS,TIM1_ETR,EVENTOUT", 34 PA13(SWDIO) (io) "PA13(SWDAT)/IR_OUT,SWDAT", 35 VSS (power) "Ground", 36 VDDIO (power) "IO power supply", 37 PA14(SWCLK) (io) "PA14(SWCLK)/SWCLK,USART1_TX", 38 PA15 (io) "PA15/SPI1_NSS,I2S1_WS,TIM2_CH_ETR,EVENTOUT,USART1_RX", 39 PB3 (io) "PB3/SPI1_SCK,I2S1_CK,TIM2_CH2,EVENTOUT", 40 PB4 (io) "PB4/SPI1_MISO,I2S1_MCK,TIM3_CH1,EVENTOUT", 41 PB5 (io) "PB5/SPI1_MOSI,I2S1_SD,I2C1_SMBA,TIM16_BKIN,TIM3_CH2", 42 PB6 (io) "PB6/I2C1_SCL,USART1_TX,TIM16_CH1N", 43 PB7 (io) "PB7/I2C1_SDA,USART1_RX,TIM17_CH1N", 44 BOOT0 (in) "Boot memory selection", 45 PB8 (io) "PB8/I2C1_SCL,TIM16_CH1", 46 PB9 (io) "PB9/I2C1_SDA,IR_OUT,TIM17_CH1,EVENTOUT", 47 VSS (power) "Ground", 48 VDD (power) "Digital power supply"

## STM32F042F4P6
designator U?
Cortex-M0, 48MGz, 32Kb Flash (TSSOP-20); Manufacturer: STMicroelectronics; Part Number: STM32F042F4P6; ComponentLink1Description: DataSheet; ComponentLink1URL: https://static.chipdip.ru/lib/507/DOC001507725.pdf; ComponentLink2Description: Chip&Dip; ComponentLink2URL: https://www.chipdip.ru/product/stm32f042f4p6-2; Type: IC
footprint SSOP20 (SOP, 20-Leads, Body 6.6x4.5mm, Pitch 0.65mm, IPC Low Density)
pins: 1 BOOT0 (in) "Boot memory selection", 2 PF0-OSC_IN(PF0) (io) "PF0-OSC_IN(PF0)/OSC_IN", 3 PF1-OSC_OUT(PF1) (io) "PF1-OSC_OUT(PF1)/OSC_OUT", 4 NRST (io) "Device reset input / internal reset output (active low)", 5 VDDA (power) "Analog power supply", 6 PA0 (io) "PA0/USART1_CTS/ADC_IN0,RTC_TAMP2,WKUP1", 7 PA1 (io) "PA1/USART1_RTS,EVENTOUT/ADC_IN1", 8 PA2 (io) "PA2/USART1_TX/ADC_IN2", 9 PA3 (io) "PA3/USART1_RX/ADC_IN3", 10 PA4 (io) "PA4/SPI1_NSS,USART1_CK,TIM14_CH1/ADC_IN4", 11 PA5 (io) "PA5/SPI1_SCK/ADC_IN5", 12 PA6 (io) "PA6/SPI1_MISO,TIM3_CH1,TIM1_BKIN,TIM16_CH1,EVENTOUT/ADC_IN6", 13 PA7 (io) "PA7/SPI1_MOSI,TIM3_CH2,TIM14_CH1,TIM1_CH1N,TIM17_CH1,EVENTOUT/ADC_IN7", 14 PB1 (io) "PB1/TIM3_CH4,TIM14_CH1,TIM1_CH3N/ADC_IN9", 15 VSS (power) "Ground", 16 VDD (power) "Digital power supply", 17 PA9 (io) "PA9/USART1_TX,TIM1_CH2,I2C1_SCL", 18 PA10 (io) "PA10/USART1_RX,TIM1_CH3,TIM17_BKIN,I2C1_SDA", 19 PA13(SWDIO) (io) "PA13(SWDIO)/IR_OUT,SWDIO", 20 PA14(SWCLK) (io) "PA14(SWCLK)/USART1_TX,SWCLK"

## STM32F103C8T6
designator U?
Cortex™-M3 32-bit RISC core operating at a 72 MHz frequency; Manufacturer: STMicroelectronics; Part Number: STM32F103C8T6; ComponentLink1Description: DataSheet; ComponentLink1URL: https://www.st.com/resource/en/datasheet/stm32f103c8.pdf; ComponentLink2Description: Chip&Dip; ComponentLink2URL: https://www.chipdip.ru/product/stm32f103c8t6; Type: IC
footprint LQFP48
pins: 1 VBAT (power) "Battary power supply", 2 PC13 (io) "PC13/RTC_TAMP1,RTC_TS,RTC_OUT,WKUP2", 3 PC14-OSC32_IN(PC14) (io) "PC14-OSC32_IN(PC14)/OSC32_IN", 4 PC15-OSC32_OUT(PC15) (io) "PC15-OSC32_OUT(PC15)/OSC32_OUT", 5 PF0-OSC_IN(PF0) (io) "PF0-OSC_IN(PF0)/OSC_IN", 6 PF1-OSC_OUT(PF1) (io) "PF1-OSC_OUT(PF1)/OSC_OUT", 7 NRST (io) "Device reset input / internal reset output (active low)", 8 VSSA (power) "Analog Ground", 9 VDDA (power) "Analog power supply", 10 PA0 (io) "PA0/TIM2_CH1_ETR,USART1_CTS/ADC_IN0,RTC_TAMP2,WKUP1", 11 PA1 (io) "PA1/TIM2_CH2,EVENTOUT,USART1_RTS/ADC_IN1", 12 PA2 (io) "PA2/TIM2_CH3,USART1_TX/ADC_IN2", 13 PA3 (io) "PA3/TIM2_CH4,USART1_RX/ADC_IN3", 14 PA4 (io) "PA4/SPI1_NSS,I2S1_WS,TIM14_CH1,USART1_CK/ADC_IN4", 15 PA5 (io) "PA5/SPI1_SCK,I2S1_CK,TIM2_CH1_ETR/ADC_IN5", 16 PA6 (io) "PA6/SPI1_MISO,I2S1_MCK,TIM3_CH1,TIM1_BKIN,TIM16_CH1,EVENTOUT/ADC_IN6", 17 PA7 (io) "PA7/SPI1_MOSI,I2S1_SD,TIM3_CH2,TIM14_CH1,TIM1_CH1N,TIM17_CH1,EVENTOUT/ADC_IN7", 18 PB0 (io) "PB0/TIM3_CH3,TIM1_CH2N,EVENTOUT/ADC_IN8", 19 PB1 (io) "PB1/TIM3_CH4,TIM14_CH1,TIM1_CH3N/ADC_IN9", 20 PB2 (io), 21 PB10 (io) "PB10/TIM2_CH3,I2C1_SCL", 22 PB11 (io) "PB11/TIM2_CH4,EVENTOUT,I2C1_SDA", 23 VSS (power) "Ground", 24 VDD (power) "Digital power supply", 25 PB12 (io) "PB12/TIM1_BKIN,EVENTOUT,SPI1_NSS", 26 PB13 (io) "PB13/TIM1_CH1N,SPI1_SCK", 27 PB14 (io) "PB14/TIM1_CH2N,SPI1_MISO", 28 PB15 (io) "PB15/TIM1_CH3N,SPI1_MOSI/RTC_REFIN", 29 PA8 (io) "PA8/USART1_CK,TIM1_CH1,EVENTOUT,MCO", 30 PA9 (io) "PA9/USART1_TX,TIM1_CH2,I2C1_SCL", 31 PA10 (io) "PA10/USART1_RX,TIM1_CH3,TIM17_BKIN,I2C1_SDA", 32 PA11 (io) "PA11/USART1_CTS,TIM1_CH4,EVENTOUT", 33 PA12 (io) "PA12/USART1_RTS,TIM1_ETR,EVENTOUT", 34 PA13(SWDIO) (io) "PA13(SWDAT)/IR_OUT,SWDAT", 35 VSS (power) "Ground", 36 VDDIO (power) "IO power supply", 37 PA14(SWCLK) (io) "PA14(SWCLK)/SWCLK,USART1_TX", 38 PA15 (io) "PA15/SPI1_NSS,I2S1_WS,TIM2_CH_ETR,EVENTOUT,USART1_RX", 39 PB3 (io) "PB3/SPI1_SCK,I2S1_CK,TIM2_CH2,EVENTOUT", 40 PB4 (io) "PB4/SPI1_MISO,I2S1_MCK,TIM3_CH1,EVENTOUT", 41 PB5 (io) "PB5/SPI1_MOSI,I2S1_SD,I2C1_SMBA,TIM16_BKIN,TIM3_CH2", 42 PB6 (io) "PB6/I2C1_SCL,USART1_TX,TIM16_CH1N", 43 PB7 (io) "PB7/I2C1_SDA,USART1_RX,TIM17_CH1N", 44 BOOT0 (in) "Boot memory selection", 45 PB8 (io) "PB8/I2C1_SCL,TIM16_CH1", 46 PB9 (io) "PB9/I2C1_SDA,IR_OUT,TIM17_CH1,EVENTOUT", 47 VSS (power) "Ground", 48 VDD (power) "Digital power supply"

## STM32F103RCT6
designator U?
IC MCU 32BIT 256KB FLASH 64LQFP; Manufacturer: STMicroelectronics; Part Number: STM32F103RCT6; Type: IC; ComponentLink1Description: DataSheet; ComponentLink1URL: https://www.st.com/resource/en/datasheet/cd00191185.pdf; ComponentLink2Description: Chip&Dip; ComponentLink2URL: https://www.chipdip.ru/product/stm32f103rct6-2
footprint LQFP64
pins: 1 VBAT (power), 2 PC13-TAMPER-RTC (io), 3 PC14-OSC32 IN (out), 4 PC15-OSC32 OUT (io), 5 PD0-OSC IN (io), 6 PD1-OSC OUT (io), 7 ~{RST} (in), 8 PC0 (io), 9 PC1 (io), 10 PC2 (io), 11 PC3 (io), 12 VSSA (power), 13 VDDA (power), 14 PA0-WKUP (io), 15 PA1 (io), 16 PA2 (io), 17 PA3 (io), 18 VSS 4 (power), 19 VDD 4 (power), 20 PA4 (io), 21 PA5 (io), 22 PA6 (io), 23 PA7 (io), 24 PC4 (io), 25 PC5 (io), 26 PB0 (io), 27 PB1 (io), 28 PB2 (io), 29 PB10 (io), 30 PB11 (io), 31 VSS 1 (power), 32 VDD 1 (power), 33 PB12 (io), 34 PB13 (io), 35 PB14 (io), 36 PB15 (io), 37 PC6 (io), 38 PC7 (io), 39 PC8 (io), 40 PC9 (io), 41 PA8 (io), 42 PA9 (io), 43 PA10 (io), 44 PA11 (io), 45 PA12 (io), 46 PA13 (io), 47 VSS 2 (power), 48 VDD 2 (power), 49 PA14 (io), 50 PA15 (io), 51 PC10 (io), 52 PC11 (io), 53 PC12 (io), 54 PD2 (io), 55 PB3 (io), 56 PB4 (io), 57 PB5 (io), 58 PB6 (io), 59 PB7 (io), 60 BOOT0, 61 PB8 (io), 62 PB9 (io), 63 VSS 3 (power), 64 VDD 3 (power)

## STM32F105RCT6
designator U?
MCU ARM 256KB FLASH MEM 64-LQFP; Manufacturer: STMicroelectronics; Part Number: STM32F105RCT6; ComponentLink1Description: DataSheet; ComponentLink1URL: https://static6.arrow.com/aropdfconversion/3fd6bc01359f79a4f9745354b823e6b7c79e203b/2083962039691295cd00220364.pdf; ComponentLink2Description: Chip&Dip; ComponentLink2URL: https://www.chipdip.ru/product0/8001787632; Type: IC
footprint LQFP64
pins: 1 VBAT (power), 2 PC13-TAMPER-RTC (io) "PC13-TAMPER-RTC/PC13/TAMPER-RTC", 3 PC14-OSC32_IN (io) "PC14-OSC32_IN/PC14/OSC32_IN", 4 PC15-OSC32_OUT (io) "PC15-OSC32_OUT/PC15/OSC32_OUT", 5 PD0-OSC_IN (io) "PD0/OSC_IN", 6 PD1-OSC_OUT (io) "PD1/OSC_OUT", 7 NRST (io), 8 PC0 (io) "PC0/ADC12_IN10", 9 PC1 (io) "PC1/ADC12_IN11/ETH_MII_MDC/ETH_RMII_MDC", 10 PC2 (io) "PC2/ADC12_IN12/ETH_MII_TXD2", 11 PC3 (io) "PC3/ADC12_IN13/ETH_MII_TX_CLK", 12 VSSA (power), 13 VDDA (power), 14 PA0-WKUP (io) "PA0-WKUP/PA0/WKUP/USART2_CTS/ADC12_IN0/TIM2_CH1_ETR/TIM5_CH1/ETH_MII_CRS_WKUP", 15 PA1 (io) "PA1/USART2_RTS/ADC12_IN1/TIM5_CH2/TIM2_CH2/ETH_MII_RX_CLK/ETH_RMII_REF_CLK", 16 PA2 (io) "PA2/USART2_TX/TIM5_CH3/ADC12_IN2/TIM2_CH3/ETH_MII_MDIO/ETH_RMII_MDIO", 17 PA3 (io) "PA3/USART2_RX/TIM5_CH4/ADC12_IN3/TIM2_CH4/ETH_MII_COL", 18 VSS_4 (power), 19 VDD_4 (power), 20 PA4 (io) "PA4/SPI1_NSS/DAC_OUT1/USART2_CK/ADC12_IN4/SPI3_NSS/I2S3_WS", 21 PA5 (io) "PA5/SPI1_SCK/DAC_OUT2/ADC12_IN5", 22 PA6 (io) "PA6/SPI1_MISO/ADC12_IN6/TIM3_CH1/TIM1_BKIN", 23 PA7 (io) "PA7/SPI1_MOSI/ADC12_IN7/TIM3_CH2/ETH_MII_RX_DV/ETH_RMII_CRS_DV/TIM1_CH1N", 24 PC4 (io) "PC4/ADC12_IN14/ETH_MII_RXD0/ETH_RMII_RXD0", 25 PC5 (io) "PC5/ADC12_IN15/ETH_MII_RXD1/ETH_RMII_RXD1", 26 PB0 (io) "PB0/ADC12_IN8/TIM3_CH3/ETH_MII_RXD2/TIM1_CH2N", 27 PB1 (io) "PB1/ADC12_IN9/TIM3_CH4/ETH_MII_RXD3/TIM1_CH3N", 28 PB2 (io) "PB2/BOOT1", 29 PB10 (io) "PB10/I2C2_SCL/USART3_TX/ETH_MII_RX_ER/TIM2_CH3", 30 PB11 (io) "PB11/I2C2_SDA/USART3_RX/ETH_MII_TX_EN/ETH_RMII_TX_EN/TIM2_CH4", 31 VSS_1 (power), 32 VDD_1 (power), 33 PB12 (io) "PB12/SPI2_NSS/I2S2_WS/I2C2_SMBA/USART3_CK/TIM1_BKIN/CAN2_RX/ETH_MII_TXD0/ETH_RMII_TXD0", 34 PB13 (io) "PB13/SPI2_SCK/I2S2_CK/USART3_CTS/TIM1_CH1N/CAN2_TX/ETH_MII_TXD1/ETH_RMII_TXD1", 35 PB14 (io) "PB14/SPI2_MISO/TIM1_CH2N/USART3_RTS", 36 PB15 (io) "PB15/SPI2_MOSI/I2S2_SD/TIM1_CH3N", 37 PC6 (io) "PC6/I2S2_MCK/TIM3_CH1", 38 PC7 (io) "PC7/I2S3_MCK/TIM3_CH2", 39 PC8 (io) "PC8/TIM3_CH3", 40 PC9 (io) "PC9/TIM3_CH4", 41 PA8 (io) "PA8/USART1_CK/OTG_FS_SOF/TIM1_CH1/MCO", 42 PA9 (io) "PA9/USART1_TX/TIM1_CH2/OTG_FS_VBUS", 43 PA10 (io) "PA10/USART1_RX/TIM1_CH3/OTG_FS_ID", 44 PA11 (io) "PA11/USART1_CTS/CAN1_RX/TIM1_CH4/OTG_FS_DM", 45 PA12 (io) "PA12/USART1_RTS/OTG_FS_DP/CAN1_TX/TIM1_ETR", 46 PA13 (SWDIO) (io) "PA13/JTMS-SWDIO", 47 VSS_2 (power), 48 VDD_2 (power), 49 PA14 (SWCLK) (io) "PA14/JTCK-SWCLK", 50 PA15 (io) "PA15/JTDI/SPI3_NSS/I2S3_WS/TIM2_CH1_ETR/SPI1_NSS", 51 PC10 (io) "PC10/UART4_TX/USART3_TX/SPI3_SCK/I2S3_CK", 52 PC11 (io) "PC11/UART4_RX/USART3_RX/SPI3_MISO", 53 PC12 (io) "PC12/UART5_TX/USART3_CK/SPI3_MOSI/I2S3_SD", 54 PD2 (io) "PD2/TIM3_ETR/UART5_RX", 55 PB3 (io) "PB3/JTDO/SPI3_SCK/I2S3_CK/TRACESWO/TIM2_CH2/SPI1_SCK", 56 PB4 (io) "PB4/NJTRST/SPI3_MISO/TIM3_CH1/SPI1_MISO", 57 PB5 (io) "PB5/I2C1_SMBA/SPI3_MOSI/ETH_MII_PPS_OUT/I2S3_SD/ETH_RMII_PPS_OUT/TIM3_CH2/SPI1_MOSI/CAN2_RX", 58 PB6 (io) "PB6/I2C1_SCL/TIM4_CH1/USART1_TX/CAN2_TX", 59 PB7 (io) "PB7/I2C1_SDA/TIM4_CH2/USART1_RX", 60 BOOT0 (in), 61 PB8 (io) "PB8/TIM4_CH3/ETH_MII_TXD3/I2C1_SCL/CAN1_RX", 62 PB9 (io) "PB9/TIM4_CH4/I2C1_SDA/CAN1_TX", 63 VSS_3 (power), 64 VDD_3 (power)

## STM32F303RCT7
designator U?
ARM Cortex-M4 32-bit MCU, 256 KB Flash, 40 KB Internal RAM, 52 I/Os, 64-pin LQFP, -40 to 105 degC, Tray, 39x12bit ADC; Manufacturer: STMicroelectronics; ComponentLink2Description: Datasheet; ComponentLink2URL: http://www.st.com/st-web-ui/static/active/en/resource/technical/document/datasheet/DM00058181.pdf; ComponentLink3Description: ChipDip; ComponentLink3URL: https://www.chipdip.ru/product1/8001934304?from=suggest_product; Part Number: STM32F303RCT7; Type: IC
footprint LQFP64
pins: 1 VBAT (power) "Backup power supply", 2 PC13 (io) "PC13/TIM1_CH1N/WKUP2,RTC_TAMP1,RTC_TS,RTC_OUT", 3 PC14-OSC32_IN (io) "PC14-OSC32_IN(PC14)/OSC32_IN", 4 PC15-OSC32_OUT (io) "PC15-OSC32_OUT(PC15)/OSC32_OUT", 5 PF0-OSC_IN(PF0) (io) "PF0-OSC_IN(PF0)/TIM1_CH3N,I2C2_SDA/OSC_IN", 6 PF1-OSC_OUT(PF1) (io) "PF1-OSC_OUT(PF1)/I2C2_SCL/OSC_OUT", 7 NRST (io) "Device reset input / internal reset output (active low)", 8 PC0 (io) "PC0/EVENTOUT/ADC12_IN6,COMP7_INM", 9 PC1 (io) "PC1/EVENTOUT/ADC12_IN7,COMP7_INP", 10 PC2 (io) "PC2/COMP7_OUT,EVENTOUT/ADC12_IN8", 11 PC3 (io) "PC3/TIM1_BKIN2,EVENTOUT/ADC12_IN9", 12 VSSA (power) "Analog ground/Negative reference voltage", 13 VDDA (power) "Analog power supply/Positive reference voltage", 14 PA0 (io) "PA0/USART2_CTS,TIM2_CH1_ETR,TIM8_BKIN,TIM8_ETR,TSC_G1_IO1,COMP1_OUT,EVENTOUT/ADC1_IN1,COMP1_INM,RTC_TAMP2,WKUP1,COMP7_INP", 15 PA1 (io) "PA1/USART2_RTS,TIM2_CH2,TSC_G1_IO2,TIM15_CH1N,RTC_REFIN,EVENTOUT/ADC1_IN2,COMP1_INP,OPAMP1_VINP,OPAMP3_VINP", 16 PA2 (io) "PA2/USART2_TX,TIM2_CH3,TIM15_CH1,TSC_G1_IO3,COMP2_OUT,EVENTOUT/ADC1_IN3,COMP2_INM,OPAMP1_VOUT", 17 PA3 (io) "PA3/USART2_RX,TIM2_CH4,TIM15_CH2,TSC_G1_IO4,EVENTOUT/ADC1_IN4,OPAMP1_VINP,COMP2_INP,OPAMP1_VINM", 18 PF4 (io) "PF4/COMP1_OUT,EVENTOUT/ADC1_IN5", 19 VDD_4 (power) "Digital power supply", 20 PA4 (io) "PA4/SPI1_NSS,SPI3_NSS,I2S3_WS,USART2_CK,TSC_G2_IO1,TIM3_CH2,EVENTOUT/ADC2_IN1,DAC1_OUT1,OPAMP4_VINP,COMP1_INM,COMP2_INM,COMP3_INM,COMP4_INM,COMP5_INM,COMP6_INM,COMP7_INM", 21 PA5 (io) "PA5/SPI1_SCK,TIM2_CH1_ETR,TSC_G2_IO2,EVENTOUT/ADC2_IN2,DAC1_OUT2,OPAMP1_VINP,OPAMP2_VINM,OPAMP3_VINP,COMP1_INM,COMP2_INM,COMP3_INM,COMP4_INM,COMP5_INM,COMP6_INM,COMP7_INM", 22 PA6 (io) "PA6/SPI1_MISO,TIM3_CH1,TIM8_BKIN,TIM1_BKIN,TIM16_CH1,COMP1_OUT,TSC_G2_IO3,EVENTOUT/ADC2_IN3,OPAMP2_VOUT", 23 PA7 (io) "PA7/SPI1_MOSI,TIM3_CH2,TIM17_CH1,TIM1_CH1N,TIM8_CH1N,TSC_G2_IO4,COMP2_OUT,EVENTOUT/ADC2_IN4,COMP2_INP,OPAMP2_VINP,OPAMP1_VINP", 24 PC4 (io) "PC4/USART1_TX,EVENTOUT/ADC2_IN5", 25 PC5 (io) "PC5/USART1_RX,TSC_G3_IO1,EVENTOUT/ADC2_IN11,OPAMP2_VINM,OPAMP1_VINM", 26 PB0 (io) "PB0/TIM3_CH3,TIM1_CH2N,TIM8_CH2N,TSC_G3_IO2,EVENTOUT/ADC3_IN12,COMP4_INP,OPAMP3_VINP,OPAMP2_VINP", 27 PB1 (io) "PB1/TIM3_CH4,TIM1_CH3N,TIM8_CH3N,COMP4_OUT,TSC_G3_IO3,EVENTOUT/ADC3_IN1,OPAMP3_VOUT", 28 PB2 (io) "PB2/TSC_G3_IO4,EVENTOUT/ADC2_IN12,COMP4_INM,OPAMP3_VINM", 29 PB10 (io) "PB10/USART3_TX,TIM2_CH3,TSC_SYNC,EVENTOUT/COMP5_INM,OPAMP4_VINM,OPAMP3_VINM", 30 PB11 (io) "PB11/USART3_RX,TIM2_CH4,TSC_G6_IO1,EVENTOUT/COMP6_INP,OPAMP4_VINP", 31 VSS_2 (power) "Digital ground", 32 VDD_2 (power) "Digital power supply", 33 PB12 (io) "PB12/SPI2_NSS,I2S2_WS,I2C2_SMBA,USART3_CK,TIM1_BKIN,TSC_G6_IO2,EVENTOUT/ADC4_IN3,COMP3_INM,OPAMP4_VOUT", 34 PB13 (io) "PB13/SPI2_SCK,I2S2_CK,USART3_CTS,TIM1_CH1N,TSC_G6_IO3,EVENTOUT/ADC3_IN5,COMP5_INP,OPAMP4_VINP,OPAMP3_VINP", 35 PB14 (io) "PB14/SPI2_MISO,I2S2ext_SD,USART3_RTS,TIM1_CH2N,TIM15_CH1,TSC_G6_IO4,EVENTOUT/COMP3_INP,ADC4_IN4,OPAMP2_VINP", 36 PB15 (io) "PB15/SPI2_MOSI,I2S2_SD,TIM1_CH3N,RTC_REFIN,TIM15_CH1N,TIM15_CH2,EVENTOUT/ADC4_IN5,COMP6_INM", 37 PC6 (io) "PC6/I2S2_MCK,COMP6_OUT,TIM8_CH1,TIM3_CH1,EVENTOUT", 38 PC7 (io) "PC7/I2S3_MCK,TIM8_CH2,TIM3_CH2,COMP5_OUT,EVENTOUT", 39 PC8 (io) "PC8/TIM8_CH3,TIM3_CH3,COMP3_OUT,EVENTOUT", 40 PC9 (io) "PC9/TIM8_CH4,TIM8_BKIN2,TIM3_CH4,I2S_CKIN,EVENTOUT", 41 PA8 (io) "PA8/I2C2_SMBA,I2S2_MCK,USART1_CK,TIM1_CH1,TIM4_ETR,MCO,COMP3_OUT,EVENTOUT", 42 PA9 (io) "PA9/I2C2_SCL,I2S3_MCK,USART1_TX,TIM1_CH2,TIM2_CH3,TIM15_BKIN,TSC_G4_IO1,COMP5_OUT,EVENTOUT", 43 PA10 (io) "PA10/I2C2_SDA,USART1_RX,TIM1_CH3,TIM2_CH4,TIM8_BKIN,TIM17_BKIN,TSC_G4_IO2,COMP6_OUT,EVENTOUT", 44 PA11 (io) "PA11/USART1_CTS,USB_DM,CAN_RX,TIM1_CH1N,TIM1_CH4,TIM1_BKIN2,TIM4_CH1,COMP1_OUT,EVENTOUT", 45 PA12 (io) "PA12/USART1_RTS,USB_DP,CAN_TX,TIM1_CH2N,TIM1_ETR,TIM4_CH2,TIM16_CH1,COMP2_OUT,EVENTOUT", 46 PA13 (io) "PA13/USART3_CTS,TIM4_CH3,TIM16_CH1N,TSC_G4_IO3,IR_OUT,SWDIO-JTMS,EVENTOUT", 47 VSS_3 (power) "Ground", 48 VDD_3 (power) "Digital power supply", 49 PA14 (io) "PA14/I2C1_SDA,USART2_TX,TIM8_CH2,TIM1_BKIN,TSC_G4_IO4,SWCLK-JTCK,EVENTOUT", 50 PA15 (io) "PA15/I2C1_SCL,SPI1_NSS,SPI3_NSS,I2S3_WS,JTDI,USART2_RX,TIM1_BKIN,TIM2_CH1_ETR,TIM8_CH1,EVENTOUT", 51 PC10 (io) "PC10/SPI3_SCK,I2S3_CK,USART3_TX,UART4_TX,TIM8_CH1N,EVENTOUT", 52 PC11 (io) "PC11/SPI3_MISO,I2S3ext_SD,USART3_RX,UART4_RX,TIM8_CH2N,EVENTOUT", 53 PC12 (io) "PC12/SPI3_MOSI,I2S3_SD,USART3_CK,UART5_TX,TIM8_CH3N,EVENTOUT", 54 PD2 (io) "PD2/UART5_RX,TIM3_ETR,TIM8_BKIN,EVENTOUT", 55 PB3 (io) "PB3/SPI3_SCK,I2S3_CK,SPI1_SCK,USART2_TX,TIM2_CH2,TIM3_ETR,TIM4_ETR,TIM8_CH1N,TSC_G5_IO1,JTDO-TRACESWO,EVENTOUT", 56 PB4 (io) "PB4/SPI3_MISO,I2S3ext_SD,SPI1_MISO,USART2_RX,TIM3_CH1,TIM16_CH1,TIM17_BKIN,TIM8_CH2N,TSC_G5_IO2,NJTRST,EVENTOUT", 57 PB5 (io) "PB5/SPI3_MOSI,SPI1_MOSI,I2S3_SD,I2C1_SMBA,USART2_CK,TIM16_BKIN,TIM3_CH2,TIM8_CH3N,TIM17_CH1,EVENTOUT", 58 PB6 (io) "PB6/I2C1_SCL,USART1_TX,TIM16_CH1N,TIM4_CH1,TIM8_CH1,TSC_G5_IO3,TIM8_ETR,TIM8_BKIN2,EVENTOUT", 59 PB7 (io) "PB7/I2C1_SDA,USART1_RX,TIM3_CH4,TIM4_CH2,TIM17_CH1N,TIM8_BKIN,TSC_G5_IO4,EVENTOUT", 60 BOOT0 (in) "Boot memory selection", 61 PB8 (io) "PB8/I2C1_SCL,CAN_RX,TIM16_CH1,TIM4_CH3,TIM8_CH2,TIM1_BKIN,TSC_SYNC,COMP1_OUT,EVENTOUT", 62 PB9 (io) "PB9/I2C1_SDA,CAN_TX,TIM17_CH1,TIM4_CH4,TIM8_CH3,IR_OUT,COMP2_OUT,EVENTOUT", 63 VSS_1 (power) "Ground", 64 VDD_1 (power) "Digital power supply"

## TestPoint
designator *
footprint TestPoint
pins: 1

## Triac
designator D?
12A 600V; Part Number: BT138-600,127; Manufacturer: WeEn Semiconductors; Type: Diode; ComponentLink1Description: DataSheet; ComponentLink1URL: https://static.chipdip.ru/lib/204/DOC000204777.pdf; ComponentLink2Description: Chip&Dip; ComponentLink2URL: https://www.chipdip.ru/product/bt138-600
footprint TO-220
pins: 1, 2, 3

## TVS Diode 3.3V [SM2T]
designator D?, comment TVS 3.3V
High peak pulse power: 200 W (10/1000 μs); Part Number: SM2T3V3A; Manufacturer: STMicroelectronics; Type: Diode; ComponentLink1Description: DataSheet; ComponentLink1URL: https://www.st.com/resource/en/datasheet/sm2t3v3a.pdf; ComponentLink2Description: Chip&Dip; ComponentLink2URL: https://www.chipdip.ru/product0/8283670575
footprint DO-216AA
pins: 1, 2

## TVS Diode 3.3V [SMLV]
designator D?, comment TVS 3.3V
Peak pulse power 600 W (10/1000 μs); Part Number: SMLVT3V3; Manufacturer: STMicroelectronics; Type: Diode; ComponentLink1Description: DataSheet; ComponentLink1URL: https://static6.arrow.com/aropdfconversion/2319bd04916a0daef63ebff1e3e85da223b8eec0/4146.pdf; ComponentLink2Description: Chip&Dip; ComponentLink2URL: https://www.chipdip.ru/product/smlvt3v3-2
footprint SMB
pins: 1, 2

## TVS Diode 5V [PESD]
designator D?, comment TVS 5V
ESD Suppressor TVS 30KV,130W,  SOD-323; Part Number: PESD5V0S1BA,115; Manufacturer: Nexperia; Type: Diode; ComponentLink1Description: DataSheet; ComponentLink1URL: https://static.chipdip.ru/lib/160/DOC001160262.pdf; ComponentLink2Description: Chip&Dip; ComponentLink2URL: https://www.chipdip.ru/product/pesd5v0s1ba.115
footprint sod-323
pins: 1, 2

## TVS Diode 5V [SMBJ]
designator D?, comment TVS 5V
Peak pulse power: 600 W (10/1000 μs), 4 kW (8/20 μs); Part Number: SMBJ5.0CA-TR; Manufacturer: STMicroelectronics; Type: Diode; ComponentLink1Description: DataSheet; ComponentLink1URL: https://static6.arrow.com/aropdfconversion/ee4838c0939fd68177ef9747b63ca424c7b9f39b/519651672847221cd0000.pdf; ComponentLink2Description: Chip&Dip; ComponentLink2URL: https://www.chipdip.ru/product/smbj5.0ca-tr
footprint SMB
pins: 1, 2

## TVS Diode 12V (SMB)
designator D?, comment TVS 12V
Transil™ TVS SMT Unidirectional 600W; Part Number: SMBJ12A-TR; Manufacturer: STMicroelectronics; Type: Diode; ComponentLink1Description: DataSheet; ComponentLink1URL: https://static6.arrow.com/aropdfconversion/ee4838c0939fd68177ef9747b63ca424c7b9f39b/519651672847221cd0000.pdf; ComponentLink2Description: Chip&Dip; ComponentLink2URL: https://www.chipdip.ru/product/smbj12ca
footprint SMB
pins: 1, 2

## TVS Diode 12V (SOD-123)
designator D?, comment TVS 12V
200W; Part Number: SMF12A; Manufacturer: Yangzhou Yangjie Electronic Technology; Type: Diode; ComponentLink1Description: DataSheet; ComponentLink1URL: https://static.chipdip.ru/lib/152/DOC001152952.pdf; ComponentLink2Description: Chip&Dip; ComponentLink2URL: https://www.chipdip.ru/product/smf12a
footprint SOD-123FL
pins: 1, 2

## TVS Diode 36V [SM6T]
designator D?, comment TVS 36V
600W; Part Number: SM6T36CA; Manufacturer: STMicroelectronics; Type: Diode; ComponentLink1Description: DataSheet; ComponentLink1URL: https://static6.arrow.com/aropdfconversion/2bbceae9338c8edef500ca51dc612d5485c99b0/80725453396644cd000.pdf; ComponentLink2Description: Chip&Dip; ComponentLink2URL: https://www.chipdip.ru/product/sm6t36ca
footprint SMB
pins: 1, 2

## TVS Diode 36V [SMBJ]
designator D?, comment TVS 36V
600W; Part Number: SMBJ36CA-TR; Manufacturer: STMicroelectronics; Type: Diode; ComponentLink1Description: DataSheet; ComponentLink1URL: https://static6.arrow.com/aropdfconversion/ee4838c0939fd68177ef9747b63ca424c7b9f39b/519651672847221cd0000.pdf; ComponentLink2Description: Chip&Dip; ComponentLink2URL: https://www.chipdip.ru/product/smbj36ca
footprint SMB
pins: 1, 2